# EAGLE library part KK156-12_S (library con-molex-kk)
HEADER
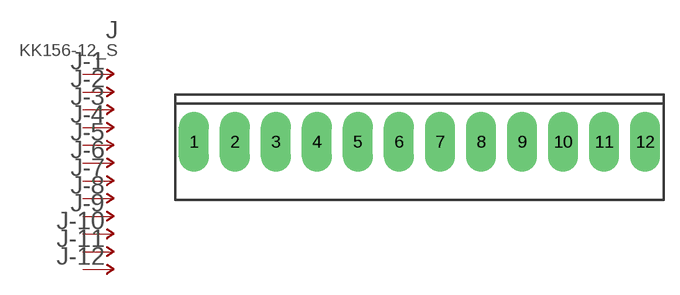
[diagram p173: symbol with the pads of KK156-12; footprint KK156-12]

Designator prefix J; gates -1=P-NV -2=P-N -3=P-N -4=P-N -5=P-N -6=P-N -7=P-N -8=P-N -9=P-N -10=P-N -11=P-N -12=P-N

## KK156-12_S  [KK156-12]
1  -1:P  pas
2  -2:P  pas
3  -3:P  pas
4  -4:P  pas
5  -5:P  pas
6  -6:P  pas
7  -7:P  pas
8  -8:P  pas
9  -9:P  pas
10  -10:P  pas
11  -11:P  pas
12  -12:P  pas

## Footprint KK156-12 (pad centres in mm)
HEADER - 0.156" SPOX 5273 Series
drill 1.93 long: 1 -21.793,0; 2 -17.831,0; 3 -13.868,0; 4 -9.906,0; 5 -5.944,0; 6 -1.981,0; 7 1.981,0; 8 5.944,0; 9 9.906,0; 10 13.868,0; 11 17.831,0; 12 21.793,0